# Altium schematic symbol library TNPW120610R0BEEN.SchLib: 1 symbol
Pins are listed as number, name and electrical type; pins without a type are passive.

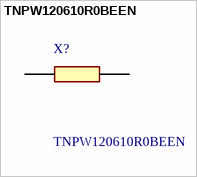
[diagram p0: symbol TNPW120610R0BEEN]

## TNPW120610R0BEEN
designator X?
Thin Film Resistors - SMD 10ohms .1% 25ppm; Manufacturer_Name: Vishay; Geometry.Height: 0.65mm; Mouser Part Number: 71-TNPW120610R0BEEN; Mouser Price/Stock: https://www.mouser.co.uk/ProductDetail/Vishay-Dale/TNPW120610R0BEEN?qs=WyvL69DJJa%252BeaMORMzQFUg%3D%3D; Manufacturer_Part_Number: TNPW120610R0BEEN; Datasheet Link: http://www.vishay.com/docs/28758/tnpw_e3.pdf
footprint RESC3216X65N
pins: 1, 2